# EAGLE library part MCP1623 (library usevolt)
MICROCHIP - MCP1623T-I/CHY - IC, BOOST, REG, PWM/PFM, SOT-23-6 Tilauskoodi: 1863917 IC, BOOST, REG, PWM/PFM, SOT-23-6 Input Voltage Min: 650mV Input Voltage Max: 5.5V No. of Outputs: 1 DC / DC Converter IC Case: SOT-23 No. of Pins: 6 Output Current: 50mA Output Voltage Min: 2V Output Voltage Max: 5.5V Switching Frequency: 500kHz Topology: Synchronous Boost (Step Up) Operating Temperature Max: 85°C Packaging: Cut Tape Base Number: 1623 MSL: MSL 1 - Unlimited Operating Temperature Min: -40°C Operating Temperature Range: -40°C to +85°C Output Voltage: 5.5V Primary Input Voltage: 5.5V SVHC: No SVHC (16-Dec-2013) Voltage Regulator Case Style: SOT-23
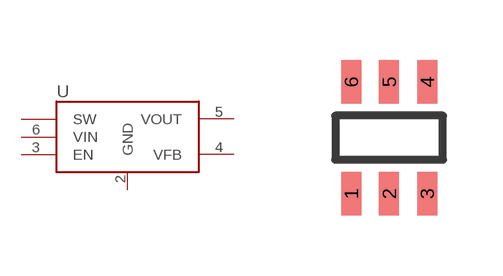
[diagram p0: symbol with the pads of SOT-23_6PIN; footprint SOT-23_6PIN]

Designator prefix U

## MCP1623SOT-32  [SOT-23_6PIN]
1  SW
2  GND
3  EN
4  VFB
5  VOUT  out
6  VIN

## Footprint SOT-23_6PIN (pad centres in mm)
6 pin SOT-23 package
smd 0.5 x 1.1: 1 0,0; 2 0.95,0; 3 1.9,0; 4 1.9,2.8; 5 0.95,2.8; 6 0,2.8